# Altium schematic symbol library DRIVER IC.SchLib: 3 symbols
Pins are listed as number, name and electrical type; pins without a type are passive.

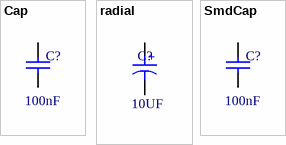
[diagram p0: symbols Cap to SmdCap]

## Cap
designator C?, comment 100nF
Cap other; VOLT: 30; VALUE: 100nF
footprint Cap-10mm
footprint Cap-15mm
footprint Cap-22mm
footprint Cap-27mm
footprint Cap-3mm
footprint Cap-5mm
footprint Cap-7mm
footprint Cap-20mm
pins: 1, 2

## radial
designator C?, comment 10UF
radial cap; VOLT: 16; VALUE: 10UF
footprint R10x16-5
footprint R10x25-5
footprint R10x30-5
footprint R12.5x20-5
footprint R12.5x25-5
footprint R5x12-2
footprint R6x7-2.5
footprint R8x11.5-3.5
footprint R8x12-3.5
footprint R8x14-3.5
pins: 1, 2
text: +

## SmdCap
designator C?, comment 100nF
Cap other; VOLT: 30; VALUE: 100nF
footprint CAP0201
footprint CAP0402
footprint CAP0603
footprint CAP0805
footprint CAP1206
footprint CAP1210
footprint CAP1812
footprint CAP2010
footprint CAP2512
pins: 1, 2